# EAGLE library part SHIELD (library Fortech)
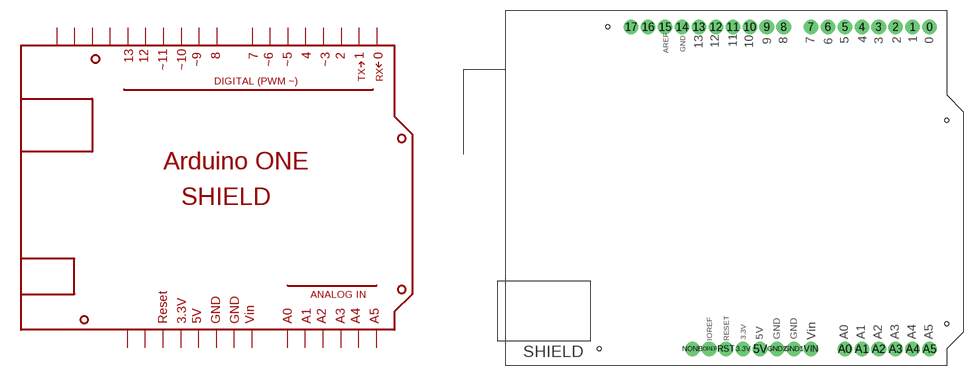
[diagram p3: symbol with the pads of SHIELD; footprint SHIELD]

Designator prefix -

## SHIELD  [SHIELD]
0  0
1  1
2  2
3  3
3.3V  3.3V
4  4
5  5
5V  5V
6  6
7  7
8  8
9  9
10  10
11  11
12  12
13  13
14  14
15  15
16  16
17  17
A0  A0
A1  A1
A2  A2
A3  A3
A4  A4
A5  A5
GND1  GND1
GND2  GND2
IOREF  IOREF
NONE  NONE
RST  RST
VIN  VIN

## Footprint SHIELD (pad centres in mm)
drill 0.9 pad 2.184: 0 27.94,22.86; 1 25.4,22.86; 2 22.86,22.86; 3 20.32,22.86; 4 17.78,22.86; 5 15.24,22.86; 6 12.7,22.86; 7 10.16,22.86; 8 6.079,22.86; 9 3.539,22.86; 10 1,22.86; 11 -1.54,22.86; 12 -4.08,22.86; 13 -6.62,22.86; 14 -9.16,22.86; 15 -11.7,22.86; 16 -14.24,22.86; 17 -16.78,22.86
drill 0.8 pad 2.184: 3.3V 0,-25.4; 5V 2.54,-25.4; A0 15.24,-25.4; A1 17.78,-25.4; A2 20.32,-25.4; A3 22.86,-25.4; A4 25.4,-25.4; A5 27.94,-25.4; GND1 7.62,-25.4; GND2 5.08,-25.4; IOREF -5.08,-25.4; NONE -7.62,-25.4; RST -2.54,-25.4; VIN 10.16,-25.4
hole 0.6 at 30.48,-21.59
hole 0.6 at 30.48,8.89
hole 0.6 at -20.32,22.86
hole 0.6 at -21.59,-25.4